# Altium footprint library LM5122QMHXNOPB.PcbLib: 3 footprints
Each footprint in its own frame and in the unit in brackets; x right, y up, seen from the top. Pads: shape width x height; smd on the part's side, far side on the other; paste and mask are expansions set on the pad; w line width, h text height; cw(c..) or ccw(c..) is an arc to the next point about the centre after c.
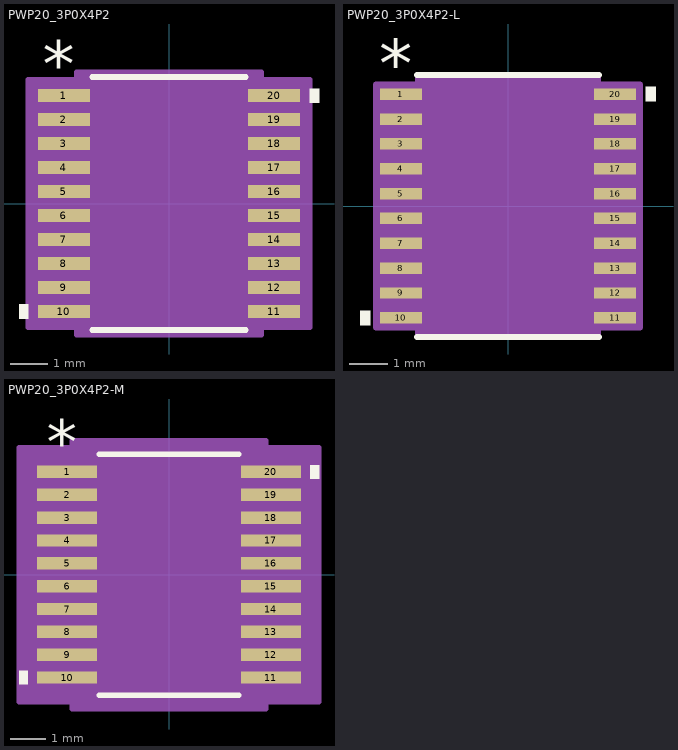
[diagram p0: the footprints below, top view; thin cyan lines are the x and y axes]

## PWP20_3P0X4P2 [mm]
pads (20):
  rect 1.411x0.351 smd paste-0.706 mask-0.711: 1(-2.85,2.925) 2(-2.85,2.275) 3(-2.85,1.625) 4(-2.85,0.975) 5(-2.85,0.325) 6(-2.85,-0.325) 7(-2.85,-0.975) 8(-2.85,-1.625) 9(-2.85,-2.275) 10(-2.85,-2.925) 11(2.85,-2.925) 12(2.85,-2.275) 13(2.85,-1.625) 14(2.85,-0.975) 15(2.85,-0.325) 16(2.85,0.325) 17(2.85,0.975) 18(2.85,1.625) 19(2.85,2.275) 20(2.85,2.925)
Top Overlay:
  region: -3.81,-2.734 -4.064,-2.734 -4.064,-3.115 -3.81,-3.115
  region: 3.81,3.115 4.064,3.115 4.064,2.734 3.81,2.734
  lines w0.152: -2.081,-3.427 2.081,-3.427 ; -2.081,3.427 2.081,3.427
  text "*" at -3.421,3.149 h1.27
  text ".Designator" at -3.492,-0.635 h1.27
Mechanical 13:
  lines w0.025: -0.305,3.3 ccw(c0,3.3) 0.305,3.3 ; -3.2,-3.075 -3.2,-2.775 -2.25,-2.775 -2.25,-3.075 -3.2,-3.075 ; -3.2,-2.425 -3.2,-2.125 -2.25,-2.125 -2.25,-2.425 -3.2,-2.425 ; -3.2,-1.775 -3.2,-1.475 -2.25,-1.475 -2.25,-1.775 -3.2,-1.775 ; -3.2,-1.125 -3.2,-0.825 -2.25,-0.825 -2.25,-1.125 -3.2,-1.125 ; -3.2,-0.475 -3.2,-0.175 -2.25,-0.175 -2.25,-0.475 -3.2,-0.475 ; -3.2,0.175 -3.2,0.475 -2.25,0.475 -2.25,0.175 -3.2,0.175 ; -3.2,0.825 -3.2,1.125 -2.25,1.125 -2.25,0.825 -3.2,0.825 ; -3.2,1.475 -3.2,1.775 -2.25,1.775 -2.25,1.475 -3.2,1.475 ; -3.2,2.125 -3.2,2.425 -2.25,2.425 -2.25,2.125 -3.2,2.125 ; -3.2,2.775 -3.2,3.075 -2.25,3.075 -2.25,2.775 -3.2,2.775 ; -2.25,-3.3 2.25,-3.3 2.25,3.3 -2.25,3.3 -2.25,-3.3 ; 2.25,-3.075 2.25,-2.775 3.2,-2.775 3.2,-3.075 2.25,-3.075 ; 2.25,-2.425 2.25,-2.125 3.2,-2.125 3.2,-2.425 2.25,-2.425 ; 2.25,-1.775 2.25,-1.475 3.2,-1.475 3.2,-1.775 2.25,-1.775 ; 2.25,-1.125 2.25,-0.825 3.2,-0.825 3.2,-1.125 2.25,-1.125 ; 2.25,-0.475 2.25,-0.175 3.2,-0.175 3.2,-0.475 2.25,-0.475 ; 2.25,0.175 2.25,0.475 3.2,0.475 3.2,0.175 2.25,0.175 ; 2.25,0.825 2.25,1.125 3.2,1.125 3.2,0.825 2.25,0.825 ; 2.25,1.475 2.25,1.775 3.2,1.775 3.2,1.475 2.25,1.475 ; 2.25,2.125 2.25,2.425 3.2,2.425 3.2,2.125 2.25,2.125 ; 2.25,2.775 2.25,3.075 3.2,3.075 3.2,2.775 2.25,2.775
  text ".Designator" at -3.492,-0.635 h1.27
  text "*" at -2.187,1.954 h1.27
Mechanical 15:
  region: -2.504,-3.354 -3.81,-3.354 -3.81,3.354 -2.504,3.354 -2.504,3.554 2.504,3.554 2.504,3.354 3.81,3.354 3.81,-3.354 2.504,-3.354 2.504,-3.554 -2.504,-3.554
  lines w0.152: -3.81,-3.354 -3.81,3.354 -2.504,3.354 -2.504,3.554 2.504,3.554 2.504,3.354 3.81,3.354 3.81,-3.354 2.504,-3.354 2.504,-3.554 -2.504,-3.554 -2.504,-3.354 -3.81,-3.354
3D body "PWP20_3P0X4P2.step": height 1.1, standoff 0, extent -3.2,-3.3 3.2,3.3

## PWP20_3P0X4P2-L [mm]
pads (20):
  rect 1.106x0.3 smd paste+0 mask+0: 1(-2.799,2.925) 2(-2.799,2.275) 3(-2.799,1.625) 4(-2.799,0.975) 5(-2.799,0.325) 6(-2.799,-0.325) 7(-2.799,-0.975) 8(-2.799,-1.625) 9(-2.799,-2.275) 10(-2.799,-2.925) 11(2.799,-2.925) 12(2.799,-2.275) 13(2.799,-1.625) 14(2.799,-0.975) 15(2.799,-0.325) 16(2.799,0.325) 17(2.799,0.975) 18(2.799,1.625) 19(2.799,2.275) 20(2.799,2.925)
Top Overlay:
  region: -3.606,-2.734 -3.86,-2.734 -3.86,-3.115 -3.606,-3.115
  region: 3.606,3.115 3.86,3.115 3.86,2.734 3.606,2.734
  lines w0.152: -2.377,-3.427 2.377,-3.427 ; -2.377,3.427 2.377,3.427
  text "*" at -3.371,3.098 h1.27
  text ".Designator" at -3.492,-0.635 h1.27
Mechanical 13:
  lines w0.025: -0.305,3.3 ccw(c0,3.3) 0.305,3.3 ; -3.2,-3.075 -3.2,-2.775 -2.25,-2.775 -2.25,-3.075 -3.2,-3.075 ; -3.2,-2.425 -3.2,-2.125 -2.25,-2.125 -2.25,-2.425 -3.2,-2.425 ; -3.2,-1.775 -3.2,-1.475 -2.25,-1.475 -2.25,-1.775 -3.2,-1.775 ; -3.2,-1.125 -3.2,-0.825 -2.25,-0.825 -2.25,-1.125 -3.2,-1.125 ; -3.2,-0.475 -3.2,-0.175 -2.25,-0.175 -2.25,-0.475 -3.2,-0.475 ; -3.2,0.175 -3.2,0.475 -2.25,0.475 -2.25,0.175 -3.2,0.175 ; -3.2,0.825 -3.2,1.125 -2.25,1.125 -2.25,0.825 -3.2,0.825 ; -3.2,1.475 -3.2,1.775 -2.25,1.775 -2.25,1.475 -3.2,1.475 ; -3.2,2.125 -3.2,2.425 -2.25,2.425 -2.25,2.125 -3.2,2.125 ; -3.2,2.775 -3.2,3.075 -2.25,3.075 -2.25,2.775 -3.2,2.775 ; -2.25,-3.3 2.25,-3.3 2.25,3.3 -2.25,3.3 -2.25,-3.3 ; 2.25,-3.075 2.25,-2.775 3.2,-2.775 3.2,-3.075 2.25,-3.075 ; 2.25,-2.425 2.25,-2.125 3.2,-2.125 3.2,-2.425 2.25,-2.425 ; 2.25,-1.775 2.25,-1.475 3.2,-1.475 3.2,-1.775 2.25,-1.775 ; 2.25,-1.125 2.25,-0.825 3.2,-0.825 3.2,-1.125 2.25,-1.125 ; 2.25,-0.475 2.25,-0.175 3.2,-0.175 3.2,-0.475 2.25,-0.475 ; 2.25,0.175 2.25,0.475 3.2,0.475 3.2,0.175 2.25,0.175 ; 2.25,0.825 2.25,1.125 3.2,1.125 3.2,0.825 2.25,0.825 ; 2.25,1.475 2.25,1.775 3.2,1.775 3.2,1.475 2.25,1.475 ; 2.25,2.125 2.25,2.425 3.2,2.425 3.2,2.125 2.25,2.125 ; 2.25,2.775 2.25,3.075 3.2,3.075 3.2,2.775 2.25,2.775
  text ".Designator" at -3.492,-0.635 h1.27
  text "*" at -2.187,1.954 h1.27
Mechanical 15:
  region: -2.352,-3.177 -3.454,-3.177 -3.454,3.177 -2.352,3.177 -2.352,3.402 2.352,3.402 2.352,3.177 3.454,3.177 3.454,-3.177 2.352,-3.177 2.352,-3.402 -2.352,-3.402
  lines w0.152: -3.454,-3.177 -3.454,3.177 -2.352,3.177 -2.352,3.402 2.352,3.402 2.352,3.177 3.454,3.177 3.454,-3.177 2.352,-3.177 2.352,-3.402 -2.352,-3.402 -2.352,-3.177 -3.454,-3.177
3D body "PWP20_3P0X4P2.step": height 1.1, standoff 0, extent -3.2,-3.3 3.2,3.3

## PWP20_3P0X4P2-M [mm]
pads (20):
  rect 1.716x0.351 smd paste+0 mask+0: 1(-2.901,2.925) 2(-2.901,2.275) 3(-2.901,1.625) 4(-2.901,0.975) 5(-2.901,0.325) 6(-2.901,-0.325) 7(-2.901,-0.975) 8(-2.901,-1.625) 9(-2.901,-2.275) 10(-2.901,-2.925) 11(2.901,-2.925) 12(2.901,-2.275) 13(2.901,-1.625) 14(2.901,-0.975) 15(2.901,-0.325) 16(2.901,0.325) 17(2.901,0.975) 18(2.901,1.625) 19(2.901,2.275) 20(2.901,2.925)
Top Overlay:
  region: -4.013,-2.734 -4.267,-2.734 -4.267,-3.115 -4.013,-3.115
  region: 4.013,3.115 4.267,3.115 4.267,2.734 4.013,2.734
  lines w0.152: -1.979,-3.427 1.979,-3.427 ; -1.979,3.427 1.979,3.427
  text "*" at -3.472,3.149 h1.27
  text ".Designator" at -3.492,-0.635 h1.27
Mechanical 13:
  lines w0.025: -0.305,3.3 ccw(c0,3.3) 0.305,3.3 ; -3.2,-3.075 -3.2,-2.775 -2.25,-2.775 -2.25,-3.075 -3.2,-3.075 ; -3.2,-2.425 -3.2,-2.125 -2.25,-2.125 -2.25,-2.425 -3.2,-2.425 ; -3.2,-1.775 -3.2,-1.475 -2.25,-1.475 -2.25,-1.775 -3.2,-1.775 ; -3.2,-1.125 -3.2,-0.825 -2.25,-0.825 -2.25,-1.125 -3.2,-1.125 ; -3.2,-0.475 -3.2,-0.175 -2.25,-0.175 -2.25,-0.475 -3.2,-0.475 ; -3.2,0.175 -3.2,0.475 -2.25,0.475 -2.25,0.175 -3.2,0.175 ; -3.2,0.825 -3.2,1.125 -2.25,1.125 -2.25,0.825 -3.2,0.825 ; -3.2,1.475 -3.2,1.775 -2.25,1.775 -2.25,1.475 -3.2,1.475 ; -3.2,2.125 -3.2,2.425 -2.25,2.425 -2.25,2.125 -3.2,2.125 ; -3.2,2.775 -3.2,3.075 -2.25,3.075 -2.25,2.775 -3.2,2.775 ; -2.25,-3.3 2.25,-3.3 2.25,3.3 -2.25,3.3 -2.25,-3.3 ; 2.25,-3.075 2.25,-2.775 3.2,-2.775 3.2,-3.075 2.25,-3.075 ; 2.25,-2.425 2.25,-2.125 3.2,-2.125 3.2,-2.425 2.25,-2.425 ; 2.25,-1.775 2.25,-1.475 3.2,-1.475 3.2,-1.775 2.25,-1.775 ; 2.25,-1.125 2.25,-0.825 3.2,-0.825 3.2,-1.125 2.25,-1.125 ; 2.25,-0.475 2.25,-0.175 3.2,-0.175 3.2,-0.475 2.25,-0.475 ; 2.25,0.175 2.25,0.475 3.2,0.475 3.2,0.175 2.25,0.175 ; 2.25,0.825 2.25,1.125 3.2,1.125 3.2,0.825 2.25,0.825 ; 2.25,1.475 2.25,1.775 3.2,1.775 3.2,1.475 2.25,1.475 ; 2.25,2.125 2.25,2.425 3.2,2.425 3.2,2.125 2.25,2.125 ; 2.25,2.775 2.25,3.075 3.2,3.075 3.2,2.775 2.25,2.775
  text ".Designator" at -3.492,-0.635 h1.27
  text "*" at -2.187,1.954 h1.27
Mechanical 15:
  region: -2.758,-3.608 -4.267,-3.608 -4.267,3.608 -2.758,3.608 -2.758,3.808 2.758,3.808 2.758,3.608 4.267,3.608 4.267,-3.608 2.758,-3.608 2.758,-3.808 -2.758,-3.808
  lines w0.152: -4.267,-3.608 -4.267,3.608 -2.758,3.608 -2.758,3.808 2.758,3.808 2.758,3.608 4.267,3.608 4.267,-3.608 2.758,-3.608 2.758,-3.808 -2.758,-3.808 -2.758,-3.608 -4.267,-3.608
3D body "PWP20_3P0X4P2.step": height 1.1, standoff 0, extent -3.2,-3.3 3.2,3.3